# Altium schematic symbol library CAP,Cer,10uF,10VDC,X5R,0402.Schlib: 1 symbol
Pins are listed as number, name and electrical type; pins without a type are passive.

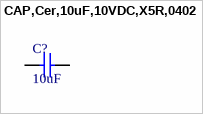
[diagram p0: symbol CAP,Cer,10uF,10VDC,X5R,0402]

## CAP,Cer,10uF,10VDC,X5R,0402
designator C?, comment 10uF
10 µF ±20% 10V Ceramic Capacitor X5R 0402 (1005 Metric)
pins: 1, 2